# Altium schematic symbol library LM74610QDGKRQ1.SchLib: 1 symbol
Pins are listed as number, name and electrical type; pins without a type are passive.

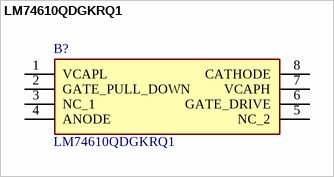
[diagram p0: symbol LM74610QDGKRQ1]

## LM74610QDGKRQ1
designator B?
Zero Iq Reverse Polarity Protection Smart Diode Controller; Manufacturer_Name: Texas Instruments; Geometry.Height: 1.1mm; Mouser Part Number: 595-LM74610QDGKRQ1; Mouser Price/Stock: https://www.mouser.co.uk/ProductDetail/Texas-Instruments/LM74610QDGKRQ1?qs=3jdCaFhktOQTVpuuubgDqg%3D%3D; Manufacturer_Part_Number: LM74610QDGKRQ1; Datasheet Link: http://www.ti.com/lit/gpn/lm74610-q1
footprint SOP65P490X110-8N
pins: 1 VCAPL, 2 GATE_PULL_DOWN, 3 NC_1, 4 ANODE, 5 NC_2, 6 GATE_DRIVE, 7 VCAPH, 8 CATHODE